# Altium footprint library pcbreath.PcbLib: 27 footprints (part 1 of 2)
Each footprint in its own frame and in the unit in brackets; x right, y up, seen from the top. Pads: shape width x height; smd on the part's side, far side on the other; paste and mask are expansions set on the pad; w line width, h text height; cw(c..) or ccw(c..) is an arc to the next point about the centre after c.
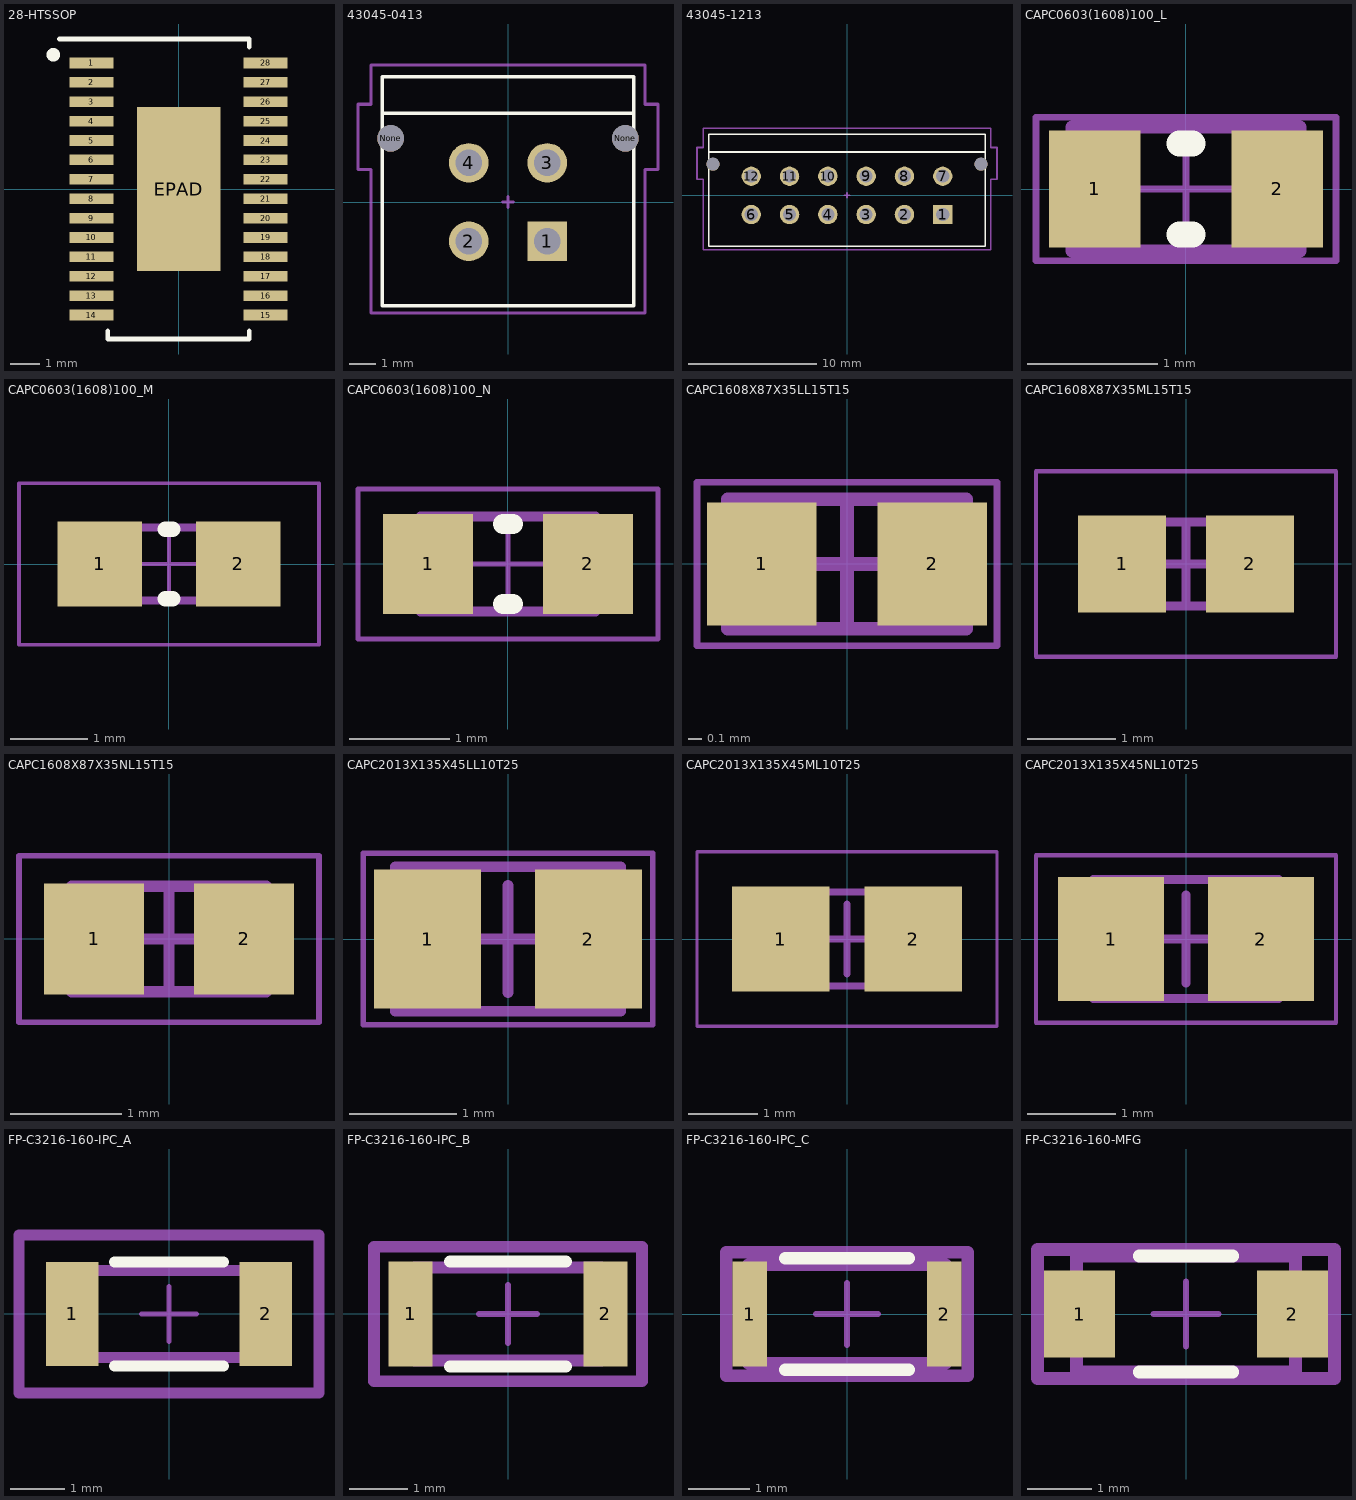
[diagram p0: the footprints below, top view; thin cyan lines are the x and y axes]

## 28-HTSSOP [mil] "ST Exposed Pad 28-pin TSSOP package"
height 47.24
pads (29):
  rect 58x14 smd paste+0 mask+1.97: 1(-115,166.34) 2(-115,140.75) 3(-115,115.16) 4(-115,89.57) 5(-115,63.98) 6(-115,38.39) 7(-115,12.8) 8(-115,-12.8) 9(-115,-38.39) 10(-115,-63.98) 11(-115,-89.57) 12(-115,-115.16) 13(-115,-140.75) 14(-115,-166.34) 15(115,-166.34) 16(115,-140.75) 17(115,-115.16) 18(115,-89.57) 19(115,-63.98) 20(115,-38.39) 21(115,-12.8) 22(115,12.8) 23(115,38.39) 24(115,63.98) 25(115,89.57) 26(115,115.16) 27(115,140.75) 28(115,166.34)
  rect 110.24x216.54 smd paste-64.5 mask+1.97: EPAD(0,0)
Top Overlay:
  circle w10: c-165.35,177.17 r3.94
  lines w6: -157.48,198 93.5,198 93.5,187.44 ; -93.5,-187.44 -93.5,-198 93.5,-198 93.5,-187.44
Mechanical 15:
  lines w5: -7.87,0 7.87,0 ; 0,-7.87 0,7.87
  text ".Designator" at -35.43,-3.94 h19.68
3D body "HTSSOP-28_STM.step": height 47.09, standoff 0, extent -129.99,-192.99 130.01,193
3D body: height 167.32, standoff -167.32, extent 0,0 0,0

## 43045-0413 [mm] "Molex Micro-Fit 3.0 2x2pos"
height 10
pads (6):
  rect 1.52x1.52 hole 1.02: 1(1.5,-1.5)
  round 1.52 hole 1.02: 2(-1.5,-1.5) 3(1.5,1.5) 4(-1.5,1.5)
  round 1.02 hole 1.02 unplated: None(-4.5,2.44) None(4.5,2.44)
Top Overlay:
  lines w0.127: -4.825,3.4 -4.825,4.8 4.825,4.8 4.825,3.4 ; -4.825,3.4 -4.825,-3.97 4.825,-3.97 4.825,3.4 ; -4.825,3.4 4.825,3.4
Mechanical 1:
  lines w0.127: -5.75,1.25 -5.25,1.25 -5.25,-4.25 5.25,-4.25 5.25,1.25 5.75,1.25 5.75,3.75 5.25,3.75 5.25,5.25 -5.25,5.25 -5.25,3.75 -5.75,3.75 -5.75,1.25
Mechanical 15:
  lines w0.127: -0.2,0 0.2,0 ; 0,-0.2 0,0.2
3D body "430450413.stp": height 9.95, standoff -3.14, extent -5.075,-3.97 5.075,4.8

## 43045-1213 [mm] "Molex Micro-Fit 3.0 2x6pos"
height 10
pads (14):
  rect 1.52x1.52 hole 1.02: 1(7.5,-1.5)
  round 1.52 hole 1.02: 2(4.5,-1.5) 3(1.5,-1.5) 4(-1.5,-1.5) 5(-4.5,-1.5) 6(-7.5,-1.5) 7(7.5,1.5) 8(4.5,1.5) 9(1.5,1.5) 10(-1.5,1.5) 11(-4.5,1.5) 12(-7.5,1.5)
  round 1.02 hole 1.02 unplated: None(-10.5,2.44) None(10.5,2.44)
Top Overlay:
  lines w0.127: -10.825,3.4 -10.825,4.8 -4.825,4.8 4.825,4.8 10.825,4.8 10.825,3.4 ; -10.825,3.4 -10.825,-3.97 -4.825,-3.97 4.825,-3.97 10.825,-3.97 10.825,3.4 ; -10.825,3.4 -4.825,3.4 4.825,3.4 10.825,3.4
Mechanical 1:
  lines w0.127: -11.75,1.25 -11.25,1.25 -11.25,-4.25 -5.25,-4.25 5.25,-4.25 11.25,-4.25 11.25,1.25 11.75,1.25 11.75,3.75 11.25,3.75 11.25,5.25 5.25,5.25 -5.25,5.25 -11.25,5.25 -11.25,3.75 -11.75,3.75 -11.75,1.25
Mechanical 15:
  lines w0.127: -0.2,0 0.2,0 ; 0,-0.2 0,0.2
3D body "430451213.stp": height 9.95, standoff -3.14, extent -11.075,-3.97 11.075,4.8

## CAPC0603(1608)100_L [mm] "Chip Capacitor, Body 1.6x0.8mm, Height 1.0mm, IPC High Density"
height 1
pads (2):
  rect 0.7x0.9 smd: 1(-0.7,0) 2(0.7,0)
Top Overlay:
  lines w0.2: -0.05,-0.35 0.05,-0.35 ; -0.05,0.35 0.05,0.35
Mechanical 13:
  lines w0.1: -0.875,-0.475 0.875,-0.475 0.875,0.475 -0.875,0.475 -0.875,-0.475
Mechanical 15:
  lines w0.05: -0.475,0 0.475,0 ; 0,-0.475 0,0.475 ; -1.15,-0.55 1.15,-0.55 1.15,0.55 -1.15,0.55 -1.15,-0.55
3D body: height 1, standoff 0, extent 0.525,-0.475 0.875,0.475
3D body: height 1, standoff 0, extent -0.875,-0.475 -0.525,0.475
3D body: height 1, standoff 0, extent -0.525,-0.475 0.525,0.475

## CAPC0603(1608)100_M [mm] "Chip Capacitor, Body 1.6x0.8mm, Height 1.0mm, IPC Low Density"
height 1
pads (2):
  rect 1.1x1.1 smd: 1(-0.9,0) 2(0.9,0)
Top Overlay:
  lines w0.2: -0.05,-0.45 0.05,-0.45 ; -0.05,0.45 0.05,0.45
Mechanical 13:
  lines w0.1: -0.875,-0.475 0.875,-0.475 0.875,0.475 -0.875,0.475 -0.875,-0.475
Mechanical 15:
  lines w0.05: -0.475,0 0.475,0 ; 0,-0.475 0,0.475 ; -1.95,-1.05 1.95,-1.05 1.95,1.05 -1.95,1.05 -1.95,-1.05
3D body: height 1, standoff 0, extent 0.525,-0.475 0.875,0.475
3D body: height 1, standoff 0, extent -0.875,-0.475 -0.525,0.475
3D body: height 1, standoff 0, extent -0.525,-0.475 0.525,0.475

## CAPC0603(1608)100_N [mm] "Chip Capacitor, Body 1.6x0.8mm, Height 1.0mm, IPC Medium Density"
height 1
pads (2):
  rect 0.9x1 smd: 1(-0.8,0) 2(0.8,0)
Top Overlay:
  lines w0.2: -0.05,-0.4 0.05,-0.4 ; -0.05,0.4 0.05,0.4
Mechanical 13:
  lines w0.1: -0.875,-0.475 0.875,-0.475 0.875,0.475 -0.875,0.475 -0.875,-0.475
Mechanical 15:
  lines w0.05: -0.475,0 0.475,0 ; 0,-0.475 0,0.475 ; -1.5,-0.75 1.5,-0.75 1.5,0.75 -1.5,0.75 -1.5,-0.75
3D body: height 1, standoff 0, extent 0.525,-0.475 0.875,0.475
3D body: height 1, standoff 0, extent -0.875,-0.475 -0.525,0.475
3D body: height 1, standoff 0, extent -0.525,-0.475 0.525,0.475

## CAPC1608X87X35LL15T15 [mm] "Chip Capacitor, 2-Leads, Body 1.60x0.80mm, IPC High Density"
height 0.87
pads (2):
  rect 0.8x0.9 smd: 1(-0.625,0) 2(0.625,0)
Mechanical 13:
  lines w0.1: -0.875,-0.475 0.875,-0.475 0.875,0.475 -0.875,0.475 -0.875,-0.475
Mechanical 15:
  lines w0.05: -1.1,-0.6 1.1,-0.6 1.1,0.6 -1.1,0.6 -1.1,-0.6
  lines w0.1: -0.475,0 0.475,0 ; 0,-0.475 0,0.475
3D body: height 0.87, standoff 0, extent 0.525,-0.475 0.875,0.475
3D body: height 0.87, standoff 0, extent -0.875,-0.475 -0.525,0.475
3D body: height 0.87, standoff 0, extent -0.525,-0.475 0.525,0.475

## CAPC1608X87X35ML15T15 [mm] "Chip Capacitor, 2-Leads, Body 1.60x0.80mm, IPC Low Density"
height 0.87
pads (2):
  rect 1x1.1 smd: 1(-0.725,0) 2(0.725,0)
Mechanical 13:
  lines w0.1: -0.875,-0.475 0.875,-0.475 0.875,0.475 -0.875,0.475 -0.875,-0.475
Mechanical 15:
  lines w0.05: -1.7,-1.05 1.7,-1.05 1.7,1.05 -1.7,1.05 -1.7,-1.05
  lines w0.1: -0.475,0 0.475,0 ; 0,-0.475 0,0.475
3D body: height 0.87, standoff 0, extent 0.525,-0.475 0.875,0.475
3D body: height 0.87, standoff 0, extent -0.875,-0.475 -0.525,0.475
3D body: height 0.87, standoff 0, extent -0.525,-0.475 0.525,0.475

## CAPC1608X87X35NL15T15 [mm] "Chip Capacitor, 2-Leads, Body 1.60x0.80mm, IPC Medium Density"
height 0.87
pads (2):
  rect 0.9x1 smd: 1(-0.675,0) 2(0.675,0)
Mechanical 13:
  lines w0.1: -0.875,-0.475 0.875,-0.475 0.875,0.475 -0.875,0.475 -0.875,-0.475
Mechanical 15:
  lines w0.05: -1.35,-0.75 1.35,-0.75 1.35,0.75 -1.35,0.75 -1.35,-0.75
  lines w0.1: -0.475,0 0.475,0 ; 0,-0.475 0,0.475
3D body: height 0.87, standoff 0, extent 0.525,-0.475 0.875,0.475
3D body: height 0.87, standoff 0, extent -0.875,-0.475 -0.525,0.475
3D body: height 0.87, standoff 0, extent -0.525,-0.475 0.525,0.475

## CAPC2013X135X45LL10T25 [mm] "Chip Capacitor, 2-Leads, Body 2.00x1.25mm, IPC High Density"
height 1.35
pads (2):
  rect 1x1.3 smd: 1(-0.75,0) 2(0.75,0)
Mechanical 13:
  lines w0.1: -1.05,-0.675 -1.05,0.675 1.05,0.675 1.05,-0.675 -1.05,-0.675
Mechanical 15:
  lines w0.05: -1.35,-0.8 -1.35,0.8 1.35,0.8 1.35,-0.8 -1.35,-0.8
  lines w0.1: -0.5,0 0.5,0 ; 0,-0.5 0,0.5
3D body: height 1.35, standoff 0, extent -0.6,-0.675 0.6,0.675
3D body: height 1.35, standoff 0, extent -1.05,-0.675 -0.6,0.675
3D body: height 1.35, standoff 0, extent 0.6,-0.675 1.05,0.675

## CAPC2013X135X45ML10T25 [mm] "Chip Capacitor, 2-Leads, Body 2.00x1.25mm, IPC Low Density"
height 1.35
pads (2):
  rect 1.4x1.5 smd: 1(-0.95,0) 2(0.95,0)
Mechanical 13:
  lines w0.1: -1.05,-0.675 -1.05,0.675 1.05,0.675 1.05,-0.675 -1.05,-0.675
Mechanical 15:
  lines w0.05: -2.15,-1.25 -2.15,1.25 2.15,1.25 2.15,-1.25 -2.15,-1.25
  lines w0.1: -0.5,0 0.5,0 ; 0,-0.5 0,0.5
3D body: height 1.35, standoff 0, extent -0.6,-0.675 0.6,0.675
3D body: height 1.35, standoff 0, extent -1.05,-0.675 -0.6,0.675
3D body: height 1.35, standoff 0, extent 0.6,-0.675 1.05,0.675

## CAPC2013X135X45NL10T25 [mm] "Chip Capacitor, 2-Leads, Body 2.00x1.25mm, IPC Medium Density"
height 1.35
pads (2):
  rect 1.2x1.4 smd: 1(-0.85,0) 2(0.85,0)
Mechanical 13:
  lines w0.1: -1.05,-0.675 -1.05,0.675 1.05,0.675 1.05,-0.675 -1.05,-0.675
Mechanical 15:
  lines w0.05: -1.7,-0.95 -1.7,0.95 1.7,0.95 1.7,-0.95 -1.7,-0.95
  lines w0.1: -0.5,0 0.5,0 ; 0,-0.5 0,0.5
3D body: height 1.35, standoff 0, extent -0.6,-0.675 0.6,0.675
3D body: height 1.35, standoff 0, extent -1.05,-0.675 -0.6,0.675
3D body: height 1.35, standoff 0, extent 0.6,-0.675 1.05,0.675

## FP-C3216-160-IPC_A [mm] "pkg 1206"
pads (2):
  rect 0.956x1.906 smd paste+0 mask+0: 1(-1.775,0) 2(1.775,0)
Top Overlay:
  lines w0.2: -0.997,-0.953 0.997,-0.953 ; -0.997,0.953 0.997,0.953
Mechanical 5:
  lines w0.2: -2.753,-1.453 2.753,-1.453 2.753,1.453 -2.753,1.453 -2.753,-1.453
  text ".Designator" at 0,0.188 h1
Mechanical 13:
  lines w0.2: -1.6,-0.8 1.6,-0.8 1.6,0.8 -1.6,0.8 -1.6,-0.8
Mechanical 15:
  lines w0.2: -2.753,-1.453 2.753,-1.453 2.753,1.453 -2.753,1.453 -2.753,-1.453
Mechanical 16:
  lines w0.1: -0.5,0 0.5,0 ; 0,-0.5 0,0.5
3D body "Cap_TDK_C3216X5R1E476M160AC_eec.STEP": height 0.25, standoff 0, extent -2.753,-1.453 2.753,1.453

## FP-C3216-160-IPC_B [mm] "pkg 1206"
pads (2):
  rect 0.756x1.806 smd paste+0 mask+0: 1(-1.675,0) 2(1.675,0)
Top Overlay:
  lines w0.2: -0.997,-0.903 0.997,-0.903 ; -0.997,0.903 0.997,0.903
Mechanical 5:
  lines w0.2: -2.303,-1.153 2.303,-1.153 2.303,1.153 -2.303,1.153 -2.303,-1.153
  text ".Designator" at 0,0.188 h1
Mechanical 13:
  lines w0.2: -1.6,-0.8 1.6,-0.8 1.6,0.8 -1.6,0.8 -1.6,-0.8
Mechanical 15:
  lines w0.2: -2.303,-1.153 2.303,-1.153 2.303,1.153 -2.303,1.153 -2.303,-1.153
Mechanical 16:
  lines w0.1: -0.5,0 0.5,0 ; 0,-0.5 0,0.5
3D body "Cap_TDK_C3216X5R1E476M160AC_eec.STEP": height 0.25, standoff 0, extent -2.303,-1.153 2.303,1.153

## FP-C3216-160-IPC_C [mm] "pkg 1206"
pads (2):
  rect 0.556x1.706 smd paste+0 mask+0: 1(-1.575,0) 2(1.575,0)
Top Overlay:
  lines w0.2: -0.997,-0.9 0.997,-0.9 ; -0.997,0.9 0.997,0.9
Mechanical 5:
  lines w0.2: -1.953,-1 1.953,-1 1.953,1 -1.953,1 -1.953,-1
  text ".Designator" at 0,0.188 h1
Mechanical 13:
  lines w0.2: -1.6,-0.8 1.6,-0.8 1.6,0.8 -1.6,0.8 -1.6,-0.8
Mechanical 15:
  lines w0.2: -1.953,-1 1.953,-1 1.953,1 -1.953,1 -1.953,-1
Mechanical 16:
  lines w0.1: -0.5,0 0.5,0 ; 0,-0.5 0,0.5
3D body "Cap_TDK_C3216X5R1E476M160AC_eec.STEP": height 0.25, standoff 0, extent -1.953,-1 1.953,1

## FP-C3216-160-MFG [mm] "pkg 1206"
pads (2):
  rect 1.1x1.35 smd paste+0 mask+0: 1(-1.65,0) 2(1.65,0)
Top Overlay:
  lines w0.2: -0.725,-0.9 0.725,-0.9 ; -0.725,0.9 0.725,0.9
Mechanical 5:
  lines w0.2: -2.3,-1 -2.3,1 2.3,1 2.3,-1 -2.3,-1
  text ".Designator" at 0,0.188 h1
Mechanical 13:
  lines w0.2: -1.7,-0.9 -1.7,0.9 1.7,0.9 1.7,-0.9 -1.7,-0.9
Mechanical 15:
  lines w0.2: -2.3,-1 -2.3,1 2.3,1 2.3,-1 -2.3,-1
Mechanical 16:
  lines w0.1: -0.5,0 0.5,0 ; 0,-0.5 0,0.5
3D body "Cap_TDK_C3216X5R1E476M160AC_eec.STEP": height 0.25, standoff 0, extent -2.3,-1 2.3,1